# Altium schematic symbol library MABA-007681-CT2010.SchLib: 1 symbol
Pins are listed as number, name and electrical type; pins without a type are passive.

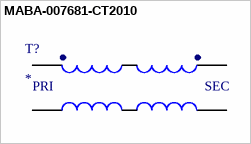
[diagram p0: symbol MABA-007681-CT2010]

## MABA-007681-CT2010
designator T?
Transformer, 1:2 Transmission Line Balun 5 - 1200 MHz
footprint MABA-007681-CT2010
pins: 1 PD, 2 SD, 3 S, 4 P
text: PRI; SEC